# EAGLE library part DP83848C (library reclone-rise)
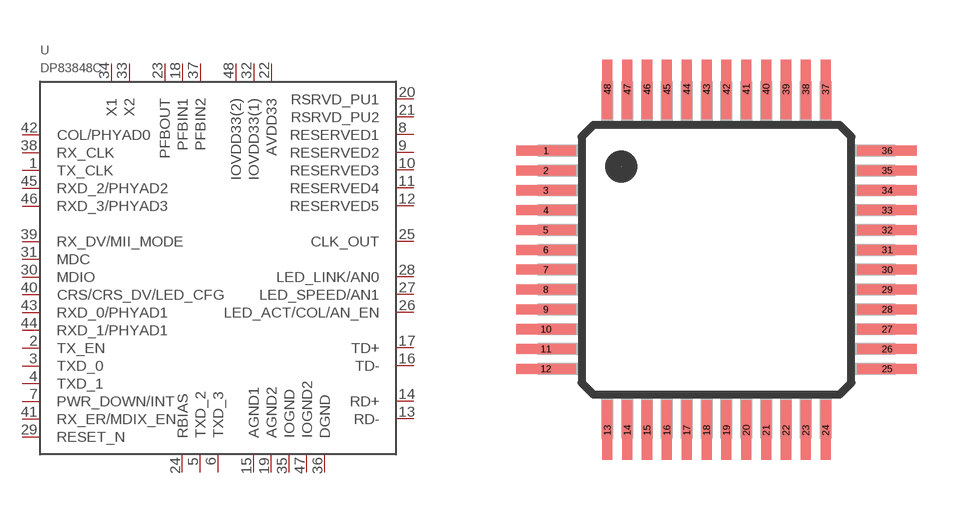
[diagram p0: symbol with the pads of LQFP-48; footprint LQFP-48]

Designator prefix -

## DP83848C  [LQFP-48]
1  TX_CLK
2  TX_EN
3  TXD_0
4  TXD_1
5  TXD_2
6  TXD_3
7  PWR_DOWN/INT
8  RESERVED1
9  RESERVED2
10  RESERVED3
11  RESERVED4
12  RESERVED5
13  RD-
14  RD+
15  AGND1
16  TD-
17  TD+
18  PFBIN1
19  AGND2
20  RSRVD_PU1
21  RSRVD_PU2
22  AVDD33
23  PFBOUT
24  RBIAS
25  CLK_OUT
26  LED_ACT/COL/AN_EN
27  LED_SPEED/AN1
28  LED_LINK/AN0
29  RESET_N
30  MDIO
31  MDC
32  IOVDD33(1)
33  X2
34  X1
35  IOGND
36  DGND
37  PFBIN2
38  RX_CLK
39  RX_DV/MII_MODE
40  CRS/CRS_DV/LED_CFG
41  RX_ER/MDIX_EN
42  COL/PHYAD0
43  RXD_0/PHYAD1
44  RXD_1/PHYAD1
45  RXD_2/PHYAD2
46  RXD_3/PHYAD3
47  IOGND2
48  IOVDD33(2)

## Footprint LQFP-48 (pad centres in mm)
smd 1.5 x 0.254: 1 -4.3,2.75; 2 -4.3,2.25; 3 -4.3,1.75; 4 -4.3,1.25; 5 -4.3,0.75; 6 -4.3,0.25; 7 -4.3,-0.25; 8 -4.3,-0.75; 9 -4.3,-1.25; 10 -4.3,-1.75; 11 -4.3,-2.25; 12 -4.3,-2.75; 25 4.3,-2.75; 26 4.3,-2.25; 27 4.3,-1.75; 28 4.3,-1.25; 29 4.3,-0.75; 30 4.3,-0.25; 31 4.3,0.25; 32 4.3,0.75; 33 4.3,1.25; 34 4.3,1.75; 35 4.3,2.25; 36 4.3,2.75
smd 0.254 x 1.5: 13 -2.75,-4.3; 14 -2.25,-4.3; 15 -1.75,-4.3; 16 -1.25,-4.3; 17 -0.75,-4.3; 18 -0.25,-4.3; 19 0.25,-4.3; 20 0.75,-4.3; 21 1.25,-4.3; 22 1.75,-4.3; 23 2.25,-4.3; 24 2.75,-4.3; 37 2.75,4.3; 38 2.25,4.3; 39 1.75,4.3; 40 1.25,4.3; 41 0.75,4.3; 42 0.25,4.3; 43 -0.25,4.3; 44 -0.75,4.3; 45 -1.25,4.3; 46 -1.75,4.3; 47 -2.25,4.3; 48 -2.75,4.3